# EAGLE library part MSTBA-09 (library con-phoenix-500)
COMBICON MSTBA - 1757530
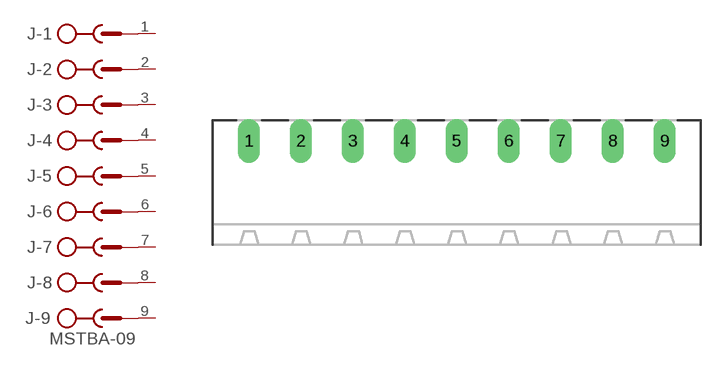
[diagram p18: symbol with the pads of MSTBA-09; footprint MSTBA-09]

Designator prefix J; gates -1=SK -2=SK -3=SK -4=SK -5=SK -6=SK -7=SK -8=SK -9=SK+V

## MSTBA-09  [MSTBA-09]
1  -1:SK  pas
2  -2:SK  pas
3  -3:SK  pas
4  -4:SK  pas
5  -5:SK  pas
6  -6:SK  pas
7  -7:SK  pas
8  -8:SK  pas
9  -9:SK  pas

## Footprint MSTBA-09 (pad centres in mm)
COMBICON MSTBA 5.00mm
drill 1.422 long: 1 -20,0; 2 -15,0; 3 -10,0; 4 -5,0; 5 0,0; 6 5,0; 7 10,0; 8 15,0; 9 20,0